# Altium footprint library IOH.PcbLib: 1 footprints
Each footprint in its own frame and in the unit in brackets; x right, y up, seen from the top. Pads: shape width x height; smd on the part's side, far side on the other; paste and mask are expansions set on the pad; w line width, h text height; cw(c..) or ccw(c..) is an arc to the next point about the centre after c.
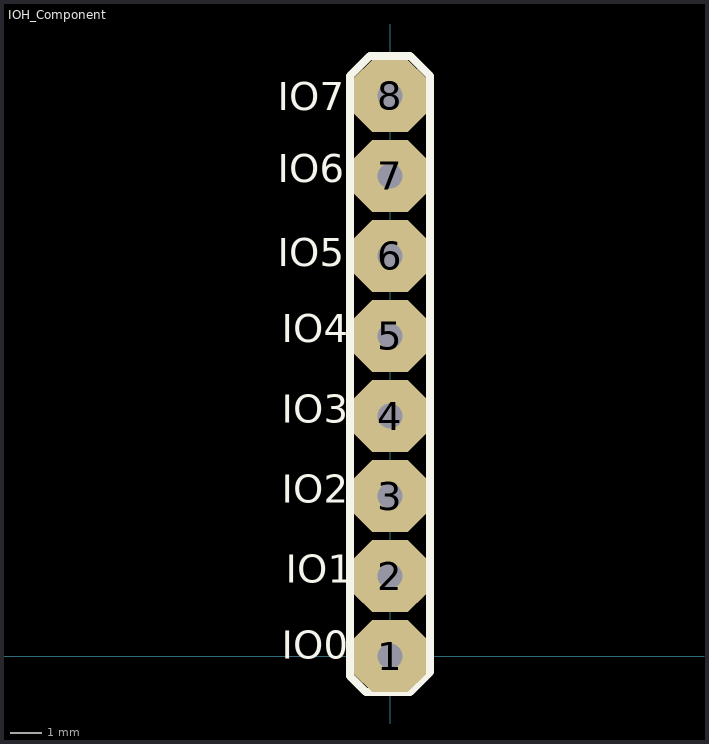
[diagram p0: the footprint, top view; thin cyan lines are the x and y axes]

## IOH_Component [mil]
pads (8):
  oct 90x90 hole 31.5: 1(0,0) 2(0,100) 3(0,200) 4(0,300) 5(0,400) 6(0,500) 7(0,600) 8(0,700)
Top Overlay:
  lines w10: -50,-25 -30,-45 -20,-45 25,-45 50,-20 50,725 25,750 -25,750 -50,725 -50,-25
  text "IO7" at -140,670 h60
  text "IO6" at -140,580 h60
  text "IO5" at -140,475 h60
  text "IO4" at -135,380 h60
  text "IO3" at -135,280 h60
  text "IO2" at -135,180 h60
  text "IO1" at -130,80 h60
  text "IO0" at -135,-15 h60